# Altium schematic symbol library R_255.SchLib: 1 symbol
Pins are listed as number, name and electrical type; pins without a type are passive.

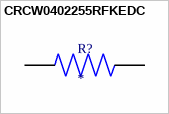
[diagram p0: symbol CRCW0402255RFKEDC]

## CRCW0402255RFKEDC
designator R?
MP: CRCW0402255RFKEDC; Package: None; Price: None; Value: *; Availability: Unavailable
footprint RESC1005X35N
pins: 1, 2